# EAGLE library part HC-05 (library ncue_ee)
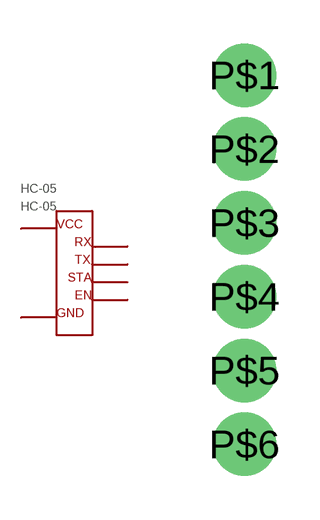
[diagram p3: symbol with the pads of HC-05-6PIN; footprint HC-05-6PIN]

Designator prefix HC-05

## HC-05  [HC-05-6PIN]
P$1  P$1
P$2  P$2
P$3  P$3
P$4  P$4
P$5  P$5
P$6  P$6

## Footprint HC-05-6PIN (pad centres in mm)
drill 1.016 pad 2.184: P$1 0,0; P$2 0,-2.54; P$3 0,-5.08; P$4 0,-7.62; P$5 0,-10.16; P$6 0,-12.7